# EAGLE library part ZX20-B-5S-UNIT(30) (library HBPMouse)
ZX series micro B USB PCB plug, 5P Source: Datasheet <https://www.hirose.com/product/en/download_file/key_name/ZX20-B-5S-UNIT(30)/category/Drawing (2D)/doc_file_id/55228/?file_category_id=6&item_id=02420012830&is_series=>
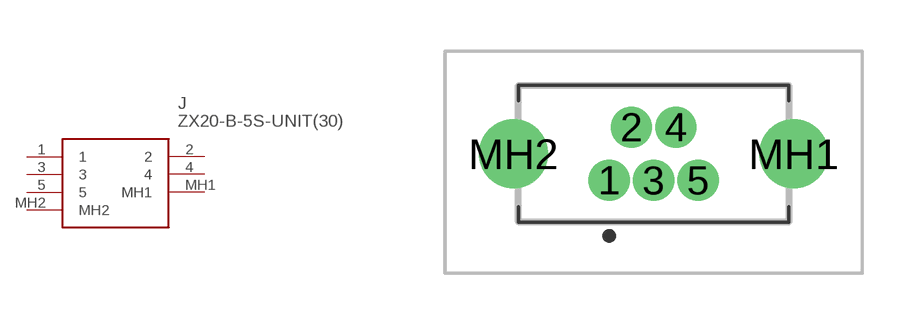
[diagram p3: symbol with the pads of ZX20B5SUNIT30; footprint ZX20B5SUNIT30]

Designator prefix J

## ZX20-B-5S-UNIT(30) (DESCRIPTION: ZX series micro B USB PCB plug, 5P; HEIGHT: 12mm; MANUFACTURER_NAME: Hirose; MANUFACTURER_PART_NUMBER: ZX20-B-5S-UNIT(30); MOUSER_PART_NUMBER: 798-ZX20-B-5S-UNIT30; MOUSER_PRICE-STOCK: https://www.mouser.com/Search/Refine.aspx?Keyword=798-ZX20-B-5S-UNIT30; RS_PART_NUMBER: 1362230; RS_PRICE-STOCK: http://uk.rs-online.com/web/p/products/1362230)  [ZX20B5SUNIT30]
1  1
2  2
3  3
4  4
5  5
MH1  MH1
MH2  MH2

## Footprint ZX20B5SUNIT30 (pad centres in mm)
ZX20-B-5S-UNIT(30)
drill 0.7 pad 1.1: 1 -1.3,-0.525; 2 -0.65,1.025; 3 0,-0.525; 4 0.65,1.025; 5 1.3,-0.525
drill 1.342 pad 2.012: MH1 4.1,0.25; MH2 -4.1,0.25